# EAGLE library part MCP2221 (library mcp)
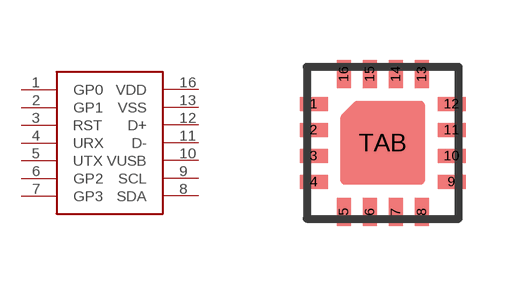
[diagram p0: symbol with the pads of QFN16; footprint QFN16]

Designator prefix -

## MCP2221  [QFN16]
1  GP0
2  GP1
3  RST
4  URX
5  UTX
6  GP2
7  GP3
8  SDA
9  SCL
10  VUSB
11  D-
12  D+
13  VSS
16  VDD

## Footprint QFN16 (pad centres in mm)
QFN-16 4 x 4 mm Source: Data sheet <http://www.ftdichip.com/Support/Documents/DataSheets/ICs/DS_FT230X.pdf>
smd 0.7 x 0.35: 1 -1.725,0.975; 2 -1.725,0.325; 3 -1.725,-0.325; 4 -1.725,-0.975; 9 1.725,-0.975; 10 1.725,-0.325; 11 1.725,0.325; 12 1.725,0.975
smd 0.35 x 0.7: 5 -0.975,-1.725; 6 -0.325,-1.725; 7 0.325,-1.725; 8 0.975,-1.725; 13 0.975,1.725; 14 0.325,1.725; 15 -0.325,1.725; 16 -0.975,1.725
smd 1 x 1: TAB 0,0